# Altium footprint library xcvu35.PcbLib: 25 footprints (part 2 of 4)
Each footprint in its own frame and in the unit in brackets; x right, y up, seen from the top. Pads: shape width x height; smd on the part's side, far side on the other; paste and mask are expansions set on the pad; w line width, h text height; cw(c..) or ccw(c..) is an arc to the next point about the centre after c.
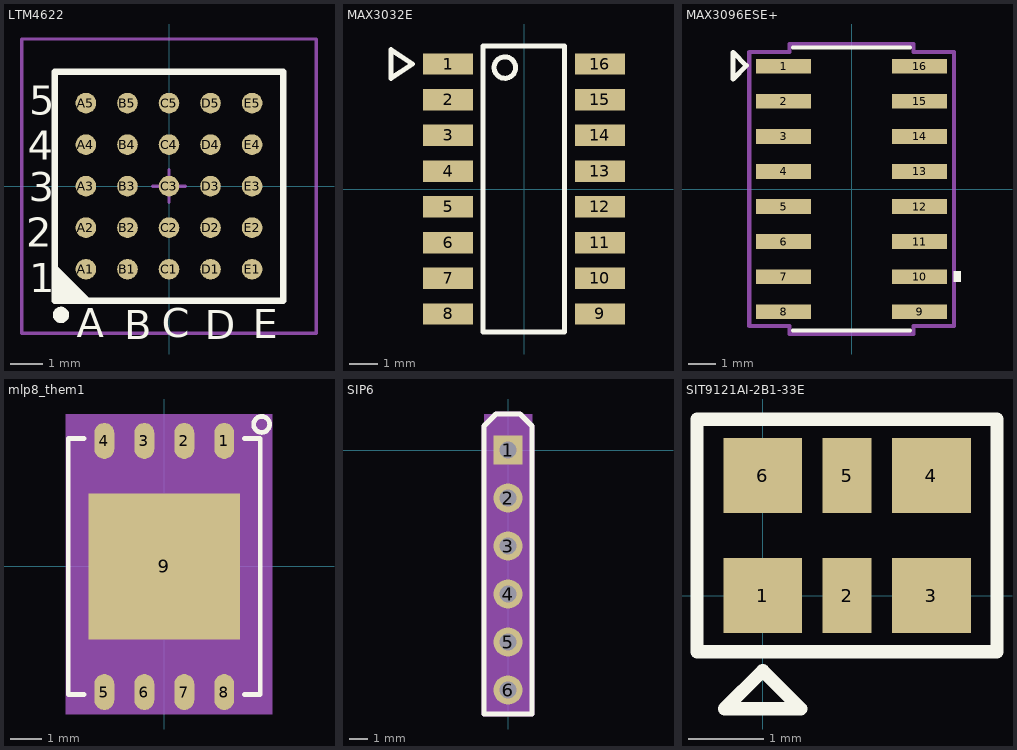
[diagram p1: the footprints below, top view; thin cyan lines are the x and y axes]

## LTM4622 [mm]
pads (25):
  round 0.63 smd: A1(-2.54,-2.54) A2(-2.54,-1.27) A3(-2.54,0) A4(-2.54,1.27) A5(-2.54,2.54) B1(-1.27,-2.54) B2(-1.27,-1.27) B3(-1.27,0) B4(-1.27,1.27) B5(-1.27,2.54) C1(0,-2.54) C2(0,-1.27) C3(0,0) C4(0,1.27) C5(0,2.54) D1(1.27,-2.54) D2(1.27,-1.27) D3(1.27,0) D4(1.27,1.27) D5(1.27,2.54) E1(2.54,-2.54) E2(2.54,-1.27) E3(2.54,0) E4(2.54,1.27) E5(2.54,2.54)
Top Overlay:
  circle w0.25: c-3.302,-3.937 r0.125
  region: -3.5,-2.5 -2.5,-3.5 -3.5,-3.5
  lines w0.2: -3.5,-2.5 -2.5,-3.5 ; -3.5,-3.5 3.5,-3.5 3.5,3.5 -3.5,3.5 -3.5,-3.5
  text "5" at -4.267,2.184 h0.89
  text "4" at -4.318,0.813 h0.89
  text "3" at -4.293,-0.457 h0.89
  text "2" at -4.369,-1.854 h0.89
  text "1" at -4.267,-3.251 h0.89
  text "E" at 2.565,-4.648 h0.89
  text "D" at 1.092,-4.674 h0.89
  text "C" at -0.229,-4.623 h0.89
  text "B" at -1.372,-4.674 h0.89
  text "A" at -2.819,-4.623 h0.89
Mechanical 13:
  lines w0.1: -3.5,-3.5 3.5,-3.5 3.5,3.5 -3.5,3.5 -3.5,-3.5
Mechanical 15:
  lines w0.1: -0.5,0 0.5,0 ; 0,-0.5 0,0.5 ; -4.5,-4.5 4.5,-4.5 4.5,4.5 -4.5,4.5 -4.5,-4.5
3D body: height 1.55, standoff 0, extent -3.5,-3.5 3.5,3.5

## MAX3032E [mil]
pads (16):
  rect 70x30 smd: 1(-106.3,175) 2(-106.3,125) 3(-106.3,75) 4(-106.3,25) 5(-106.3,-25) 6(-106.3,-75) 7(-106.3,-125) 8(-106.3,-175) 9(106.3,-175) 10(106.3,-125) 11(106.3,-75) 12(106.3,-25) 13(106.3,25) 14(106.3,75) 15(106.3,125) 16(106.3,175)
Top Overlay:
  circle w7: c-26.97,170 r15
  lines w7: -186.3,155 -156.3,175 -186.3,195 -186.3,155 ; -57.3,-200 56.55,-200 56.55,200 -57.3,200 -57.3,-200

## MAX3096ESE+ [mil]
pads (16):
  rect 78x21 smd: 1(-97,175) 2(-97,125) 3(-97,75) 4(-97,25) 5(-97,-25) 6(-97,-75) 7(-97,-125) 8(-97,-175) 9(97,-175) 10(97,-125) 11(97,-75) 12(97,-25) 13(97,25) 14(97,75) 15(97,125) 16(97,175)
Top Overlay:
  region: 146,-117.5 156,-117.5 156,-132.5 146,-132.5
  lines w6: -83.5,-202 83.5,-202 ; -83.5,202 83.5,202
  lines w7: -169,157 -169,195 -150,176 -169,157
Mechanical 15:
  lines w6: -146,-195.5 -146,195.5 -88.5,195.5 -88.5,207 88.5,207 88.5,195.5 146,195.5 146,-195.5 88.5,-195.5 88.5,-207 -88.5,-207 -88.5,-195.5 -146,-195.5

## mlp8_them1 [mil] "MLP8_THEM1"
pads (9):
  oval 25x45 smd: 1(75,157) 2(25,157) 3(-25,157) 4(-75,157) 5(-75,-157) 6(-25,-157) 7(25,-157) 8(75,-157)
  rect 188.98x183.07 smd: 9(0,0)
Top Overlay:
  lines w6: -100,-160 -120,-160 -120,160 -100,160 ; 100,-160 120,-160 120,160 100,160 ; 111.81,177.66 cw(c121.81,177.66) 121.81,187.66 cw(c121.81,177.66) 131.81,177.66 cw(c121.81,177.66) 121.81,167.66 cw(c121.81,177.66) 111.81,177.66
Mechanical 5:
  lines w6: -100,-160 -120,-160 -120,160 -100,160 ; 100,-160 120,-160 120,160 100,160 ; 111.81,177.66 ccw(c121.81,177.66) 121.81,167.66 ccw(c121.81,177.66) 131.81,177.66 ccw(c121.81,177.66) 121.81,187.66 ccw(c121.81,177.66) 111.81,177.66
Mechanical 14:
  text "8" at 75,-161 h10
  text "3" at -25,153 h10
  text "1" at 75,153 h10
  text "5" at -75,-161 h10
  text "7" at 25,-161 h10
  text "2" at 25,153 h10
  text "6" at -25,-161 h10
  text "4" at -75,153 h10
  text "9" at 0,-20 h25
Mechanical 16:
  region: -123,-184.5 134.81,-184.5 134.81,190.66 -123,190.66
  lines w6: -100,-160 -120,-160 -120,160 -100,160 ; 100,-160 120,-160 120,160 100,160
Mechanical 17:
  text "MT25QU256ABA1EW9-0SIT" at -100,-60 h25
  text ".Designator" at -10,-10 h31.1
3D body: height 150, standoff 0, extent -123,-184.5 134.81,190.66

## SIP6 [mil] "SIP6"
pads (6):
  rect 60x60 / inner rect 55x55 / far side rect 60x60 hole 36: 1(0,0)
  round 60 / inner round 55 / far side round 60 hole 36: 2(0,-100) 3(0,-200) 4(0,-300) 5(0,-400) 6(0,-500)
Top Overlay:
  lines w10: -50,-550 -50,50 -25,75 25,75 50,50 50,-550 -50,-550
Mechanical 5:
  lines w10: -50,-550 -50,50 -25,75 25,75 50,50 50,-550 -50,-550
Mechanical 14:
  text "4" at 8,-300 h10
  text "6" at 8,-500 h10
  text "3" at 8,-200 h10
  text "5" at 8,-400 h10
  text "1" at 8,0 h10
  text "2" at 8,-100 h10
Mechanical 16:
  region: -50,-550 50,-550 50,75 -50,75
  lines w1: -50,-550 -50,50 -25,75 25,75 50,50 50,-550 -50,-550
Mechanical 17:
  text "***" at 9,-447 h25
3D body: height 150, standoff 0, extent -50,-550 50,75

## SIT9121AI-2B1-33E [mm]
pads (6):
  rect 1.05x1 smd: 1(0,0) 3(2.25,0) 4(2.25,1.6) 6(0,1.6)
  rect 0.65x1 smd: 2(1.125,0) 5(1.125,1.6)
Top Overlay:
  lines w0.178: -0.875,-0.75 3.125,-0.75 3.125,2.35 -0.875,2.35 -0.875,-0.75 ; -0.508,-1.508 0.508,-1.508 0,-1 -0.508,-1.508